# Altium schematic symbol library TS5A9411.SchLib: 1 symbol
Pins are listed as number, name and electrical type; pins without a type are passive.

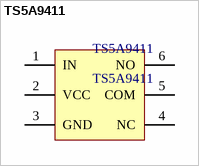
[diagram p0: symbol TS5A9411]

## TS5A9411
designator TS5A9411
footprint TS5A9411 (0.85*0.35)
pins: 1 IN, 2 VCC, 3 GND, 4 NC, 5 COM, 6 NO